# Altium schematic symbol library rtl8152b-vb-cg.SchLib: 1 symbol
Pins are listed as number, name and electrical type; pins without a type are passive.

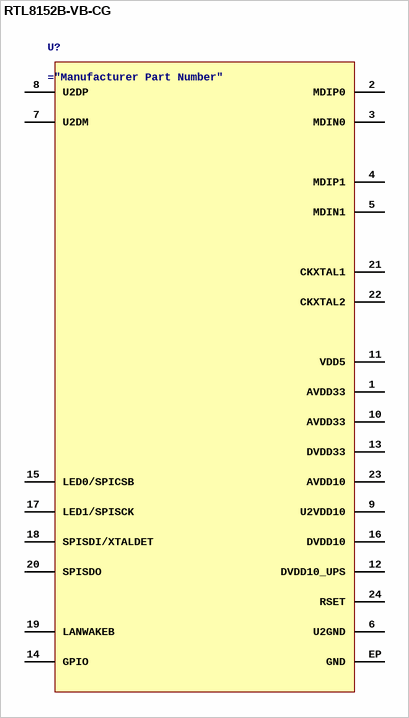
[diagram p0: symbol RTL8152B-VB-CG]

## RTL8152B-VB-CG
designator U?
Integrated 10/100M Ethernet Controller for USB Applications
pins: 1 AVDD33, 2 MDIP0, 3 MDIN0, 4 MDIP1, 5 MDIN1, 6 U2GND, 7 U2DM, 8 U2DP, 9 U2VDD10, 10 AVDD33, 11 VDD5, 12 DVDD10_UPS, 13 DVDD33, 14 GPIO, 15 LED0/SPICSB, 16 DVDD10, 17 LED1/SPISCK, 18 SPISDI/XTALDET, 19 LANWAKEB, 20 SPISDO, 21 CKXTAL1, 22 CKXTAL2, 23 AVDD10, 24 RSET, EP GND